# Altium footprint library FootPrintLib_2.PcbLib: 173 footprints (part 5 of 11)
Each footprint in its own frame and in the unit in brackets; x right, y up, seen from the top. Pads: shape width x height; smd on the part's side, far side on the other; paste and mask are expansions set on the pad; w line width, h text height; cw(c..) or ccw(c..) is an arc to the next point about the centre after c.
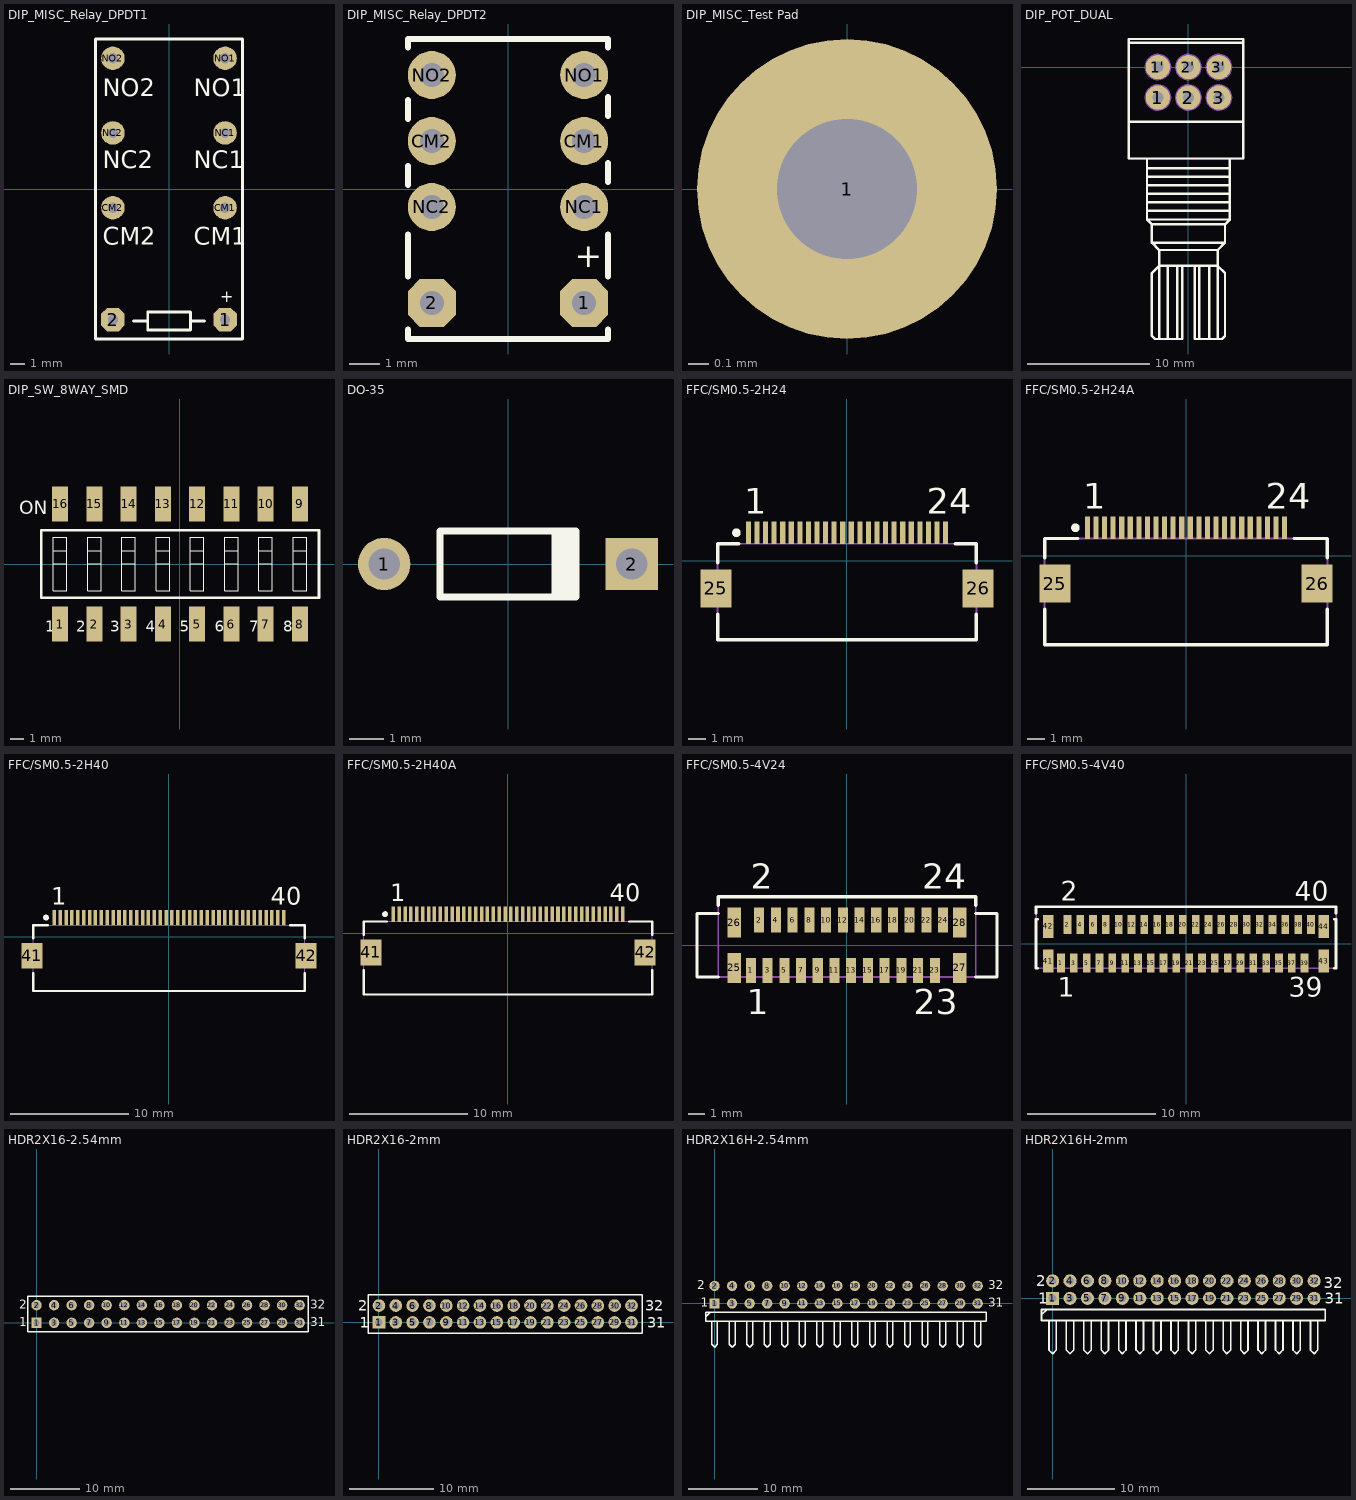
[diagram p4: the footprints below, top view; thin cyan lines are the x and y axes]

## DIP_MISC_Relay_DPDT1 [mm] "OMRON G5V-2 DPDT Relay (20.4*10*12 mm)"
height 11.95
pads (8):
  oct 1.6x1.6 hole 0.7: 1(3.81,-8.89) 2(-3.81,-8.89)
  round 1.6 hole 0.7: CM1(3.81,-1.27) CM2(-3.81,-1.27) NC1(3.81,3.81) NC2(-3.81,3.81) NO1(3.81,8.89) NO2(-3.81,8.89)
Top Overlay:
  lines w0.2: -2.4,-8.98 -1.447,-8.98 ; 1.472,-8.98 2.4,-8.98 ; -5,-10.2 5,-10.2 5,10.2 -5,10.2 -5,-10.2 ; -1.447,-9.59 1.472,-9.59 1.472,-8.371 -1.447,-8.371 -1.447,-9.59
  text "CM2" at -4.5,-3.8 h1.2
  text "NC2" at -4.5,1.4 h1.2
  text "NO2" at -4.5,6.3 h1.2
  text "NO1" at 1.7,6.3 h1.2
  text "NC1" at 1.7,1.4 h1.2
  text "CM1" at 1.7,-3.8 h1.2
  text "+" at 3.5,-7.7 h0.8
3D body "OMROM G5V-2 DPDT Mini Relay -TH.STEP": height 11, standoff -3.7, extent -4.925,-10.1 4.925,10.1

## DIP_MISC_Relay_DPDT2 [mm] "OMRON G6K-2P-Y DPDT Relay (10*6.5*5 mm)"
height 11.95
pads (8):
  oct 1.6x1.6 hole 0.8: 1(2.54,-3.8) 2(-2.54,-3.8)
  round 1.6 hole 0.8: CM1(2.54,1.6) CM2(-2.54,1.6) NC1(2.54,-0.6) NC2(-2.54,-0.6) NO1(2.54,3.8) NO2(-2.54,3.8)
Top Overlay:
  lines w0.2: -3.34,-4.689 -3.34,-5 3.34,-5 3.34,-4.689 ; -3.34,-2.911 -3.34,-1.514 ; -3.34,0.137 -3.34,0.772 ; -3.34,2.337 -3.34,2.972 ; -3.34,4.709 -3.34,5 3.34,5 3.34,4.709 ; 3.34,-2.911 3.34,-1.514 ; 3.34,0.228 3.34,0.863 ; 3.34,2.428 3.34,3.063
  text "+" at 2.23,-2.61 h0.8
3D body "g6k-2p-y.STEP": height 5.1, standoff -2.4, extent -3.25,-5 3.25,5

## DIP_MISC_Test Pad [mm]
pads (1):
  round 1.5 hole 0.7: 1(0,0)

## DIP_POT_DUAL [mm] "POT-R0911G-A1"
pads (6):
  round 2 hole 0.9: 1(-2.5,-2.5) 1'(-2.5,0) 2(0,-2.5) 2'(0,0) 3(2.5,-2.5) 3'(2.5,0)
Top Overlay:
  lines w0.2: -4.9,-4.5 4.5,-4.5 ; -4.9,2 4.5,2 ; -3.4,-11.8 3.4,-11.8 3.4,-12.5 ; -3.4,-11.1 3.4,-11.1 ; -3.4,-10.4 3.4,-10.4 ; -3.4,-9.7 3.4,-9.7 ; -3.4,-9 3.4,-9 ; -3.4,-8.3 3.4,-8.3 ; -3.4,-7.5 -3.4,-12.5 ; -2.4,-22.3 -2.4,-16.3 ; -1.7,-22.3 -1.7,-16.3 ; -0.9,-22.3 -0.9,-16.3 ; -0.5,-16.3 -0.5,-22.3 -2.75,-22.3 -3,-22.05 -3,-16.9 -2.4,-16.3 ; 0.5,-16.3 0.5,-22.3 2.75,-22.3 3,-22.05 3,-16.9 2.4,-16.3 ; 0.9,-22.3 0.9,-16.3 ; 1.7,-22.3 1.7,-16.3 ; 2.4,-22.3 2.4,-16.3 ; 3.4,-7.5 3.4,-12.5 ; -3.4,-12.5 0,-12.5 3.4,-12.5 ; -3.4,-12.5 -3,-12.9 ; -3,-14.4 0,-14.4 3,-14.4 ; -3,-14.4 -3,-12.9 ; -3,-14.4 -2.4,-15 ; -3,-12.9 0,-12.9 3,-12.9 ; -2.4,-16.3 0,-16.3 2.4,-16.3 ; -2.4,-16.3 -2.4,-15 ; -2.4,-15 0,-15 2.4,-15 ; 2.4,-16.3 2.4,-15 ; 2.4,-15 3,-14.4 ; 3,-14.4 3,-12.9 ; 3,-12.9 3.4,-12.5 ; -4.9,-7.5 -4.9,2.3 4.5,2.3 4.5,-7.5 -4.9,-7.5
Mechanical 7:
  circle w0.2: c2.5,-2.5 r1
  circle w0.2: c0,-2.5 r1
  circle w0.2: c-2.5,-2.5 r1
  circle w0.2: c2.5,0 r1
  circle w0.2: c0,0 r1
  circle w0.2: c-2.5,0 r1
  lines w0.1: -4.9,-4.5 4.5,-4.5 ; -4.9,2 4.5,2 ; -3.4,-11.8 3.4,-11.8 3.4,-12.5 ; -3.4,-11.1 3.4,-11.1 ; -3.4,-10.4 3.4,-10.4 ; -3.4,-9.7 3.4,-9.7 ; -3.4,-9 3.4,-9 ; -3.4,-8.3 3.4,-8.3 ; -3.4,-7.5 -3.4,-12.5 ; -2.4,-22.3 -2.4,-16.3 ; -1.7,-22.3 -1.7,-16.3 ; -0.9,-22.3 -0.9,-16.3 ; -0.5,-16.3 -0.5,-22.3 -2.75,-22.3 -3,-22.05 -3,-16.9 -2.4,-16.3 ; 0.5,-16.3 0.5,-22.3 2.75,-22.3 3,-22.05 3,-16.9 2.4,-16.3 ; 0.9,-22.3 0.9,-16.3 ; 1.7,-22.3 1.7,-16.3 ; 2.4,-22.3 2.4,-16.3 ; 3.4,-7.5 3.4,-12.5 ; -3.4,-12.5 -3,-12.9 ; -3.4,-12.5 0,-12.5 3.4,-12.5 ; -3,-14.4 -2.4,-15 ; -3,-14.4 -3,-12.9 ; -3,-14.4 0,-14.4 3,-14.4 ; -3,-12.9 0,-12.9 3,-12.9 ; -2.4,-16.3 -2.4,-15 ; -2.4,-16.3 0,-16.3 2.4,-16.3 ; -2.4,-15 0,-15 2.4,-15 ; 2.4,-16.3 2.4,-15 ; 2.4,-15 3,-14.4 ; 3,-14.4 3,-12.9 ; 3,-12.9 3.4,-12.5 ; -4.9,-7.5 4.5,-7.5 4.5,2.3 -4.9,2.3 -4.9,-7.5
3D body "Potentiometer 2x5K Linear.stp": height 12.64, standoff -2.5, extent -5.725,-27.97 5.764,1.504

## DIP_SW_8WAY_SMD [mm] "DIP Switch; 16 Leads"
height 5.06
pads (16):
  rect 1.2x2.6 smd: 1(-8.89,-4.45) 2(-6.35,-4.45) 3(-3.81,-4.45) 4(-1.27,-4.45) 5(1.27,-4.45) 6(3.81,-4.45) 7(6.35,-4.45) 8(8.89,-4.45) 9(8.89,4.45) 10(6.35,4.45) 11(3.81,4.45) 12(1.27,4.45) 13(-1.27,4.45) 14(-3.81,4.45) 15(-6.35,4.45) 16(-8.89,4.45)
Top Overlay:
  lines w0.025: -9.39,0 -8.39,0 ; -9.39,1 -8.39,1 ; -6.85,0 -5.85,0 ; -6.85,1 -5.85,1 ; -4.31,0 -3.31,0 ; -4.31,1 -3.31,1 ; -1.77,0 -0.77,0 ; -1.77,1 -0.77,1 ; 0.77,0 1.77,0 ; 0.77,1 1.77,1 ; 3.31,0 4.31,0 ; 3.31,1 4.31,1 ; 5.85,0 6.85,0 ; 5.85,1 6.85,1 ; 8.39,0 9.39,0 ; 8.39,1 9.39,1 ; -9.39,-2 -8.39,-2 -8.39,2 -9.39,2 -9.39,-2 ; -6.85,-2 -5.85,-2 -5.85,2 -6.85,2 -6.85,-2 ; -4.31,-2 -3.31,-2 -3.31,2 -4.31,2 -4.31,-2 ; -1.77,-2 -0.77,-2 -0.77,2 -1.77,2 -1.77,-2 ; 0.77,-2 1.77,-2 1.77,2 0.77,2 0.77,-2 ; 3.31,-2 4.31,-2 4.31,2 3.31,2 3.31,-2 ; 5.85,-2 6.85,-2 6.85,2 5.85,2 5.85,-2 ; 8.39,-2 9.39,-2 9.39,2 8.39,2 8.39,-2
  lines w0.2: -10.29,-2.5 10.31,-2.5 10.31,2.5 -10.29,2.5 -10.29,-2.5
  text "8" at 7.659,-5.032 h0.8
  text "7" at 5.119,-5.032 h0.8
  text "ON" at -11.938,3.678 h1
  text "1" at -10.006,-5.032 h0.8
  text "2" at -7.681,-5.032 h0.8
  text "3" at -5.181,-5.032 h0.8
  text "4" at -2.556,-5.032 h0.8
  text "5" at -0.031,-5.032 h0.8
  text "6" at 2.569,-5.032 h0.8

## DO-35 [mm] "Diode, Axial; Body 3.8 x 1.9 mm (LxDia. max), Lead Dia. 0.53 mm (max)"
height 1.9
pads (2):
  round 1.5 hole 0.9: 1(-3.55,0)
  rect 1.5x1.5 hole 0.9: 2(3.55,0)
Top Overlay:
  rectangle: 1.25,-0.95 2.05,0.95
  lines w0.2: 1.95,-0.95 -1.95,-0.95 -1.95,0.95 1.95,0.95
3D body "SW3dPS-do_35.STEP": height 1.89, standoff -2.29, extent -3.816,-0.875 3.816,0.875

## FFC/SM0.5-2H24 [mm] "Connector; FH12 Series; 24 Position; 0.5mm Spaced Bottom Contact"
height 2
pads (26):
  rect 0.3x1.3 smd: 1(-5.75,1.625) 2(-5.25,1.625) 3(-4.75,1.625) 4(-4.25,1.625) 5(-3.75,1.625) 6(-3.25,1.625) 7(-2.75,1.625) 8(-2.25,1.625) 9(-1.75,1.625) 10(-1.25,1.625) 11(-0.75,1.625) 12(-0.25,1.625) 13(0.25,1.625) 14(0.75,1.625) 15(1.25,1.625) 16(1.75,1.625) 17(2.25,1.625) 18(2.75,1.625) 19(3.25,1.625) 20(3.75,1.625) 21(4.25,1.625) 22(4.75,1.625) 23(5.25,1.625) 24(5.75,1.625)
  rect 1.8x2.2 smd: 25(-7.65,-1.625) 26(7.65,-1.625)
Top Overlay:
  circle w0.25: c-6.45,1.625 r0.125
  lines w0.2: -7.55,-3.125 -7.55,-4.625 7.55,-4.625 7.55,-3.125 ; -7.55,-0.125 -7.55,0.975 -6.3,0.975 ; 6.3,0.975 7.55,0.975 7.55,-0.125
  text "1" at -6,2.725 h1.5
  text "24" at 4.65,2.725 h1.5
Mechanical 13:
  lines w0.1: -7.55,-4.625 7.55,-4.625 7.55,0.975 -7.55,0.975 -7.55,-4.625
3D body "5604.stp": height 2, standoff -0.04, extent -9.3,-4.83 9.3,1.97

## FFC/SM0.5-2H24A [mm] "Connector; FH12 Series; 24 Position; 0.5mm Spaced Top Contact"
height 2
pads (26):
  rect 0.3x1.3 smd: 1(-5.75,1.625) 2(-5.25,1.625) 3(-4.75,1.625) 4(-4.25,1.625) 5(-3.75,1.625) 6(-3.25,1.625) 7(-2.75,1.625) 8(-2.25,1.625) 9(-1.75,1.625) 10(-1.25,1.625) 11(-0.75,1.625) 12(-0.25,1.625) 13(0.25,1.625) 14(0.75,1.625) 15(1.25,1.625) 16(1.75,1.625) 17(2.25,1.625) 18(2.75,1.625) 19(3.25,1.625) 20(3.75,1.625) 21(4.25,1.625) 22(4.75,1.625) 23(5.25,1.625) 24(5.75,1.625)
  rect 1.8x2.2 smd: 25(-7.65,-1.625) 26(7.65,-1.625)
Top Overlay:
  circle w0.25: c-6.45,1.625 r0.125
  lines w0.2: -8.25,-3.125 -8.25,-5.2 8.25,-5.2 8.25,-3.125 ; -8.25,-0.125 -8.25,1 -6.3,1 ; 6.3,1 8.25,1 8.25,-0.125
  text "24" at 4.65,2.725 h1.5
  text "1" at -6,2.725 h1.5
Mechanical 13:
  lines w0.1: -8.25,-5.2 -8.25,1 8.25,1 8.25,-5.2 -8.25,-5.2
3D body "5604.stp": height 2, standoff -0.04, extent -9.3,-4.83 9.3,1.97

## FFC/SM0.5-2H40 [mm] "Connector; FH12 Series; 40 Position; 0.5mm Spaced Bottom Contact"
height 2
pads (42):
  rect 0.3x1.3 smd: 1(-9.75,1.625) 2(-9.25,1.625) 3(-8.75,1.625) 4(-8.25,1.625) 5(-7.75,1.625) 6(-7.25,1.625) 7(-6.75,1.625) 8(-6.25,1.625) 9(-5.75,1.625) 10(-5.25,1.625) 11(-4.75,1.625) 12(-4.25,1.625) 13(-3.75,1.625) 14(-3.25,1.625) 15(-2.75,1.625) 16(-2.25,1.625) 17(-1.75,1.625) 18(-1.25,1.625) 19(-0.75,1.625) 20(-0.25,1.625) 21(0.25,1.625) 22(0.75,1.625) 23(1.25,1.625) 24(1.75,1.625) 25(2.25,1.625) 26(2.75,1.625) 27(3.25,1.625) 28(3.75,1.625) 29(4.25,1.625) 30(4.75,1.625) 31(5.25,1.625) 32(5.75,1.625) 33(6.25,1.625) 34(6.75,1.625) 35(7.25,1.625) 36(7.75,1.625) 37(8.25,1.625) 38(8.75,1.625) 39(9.25,1.625) 40(9.75,1.625)
  rect 1.8x2.2 smd: 41(-11.65,-1.625) 42(11.65,-1.625)
Top Overlay:
  circle w0.25: c-10.45,1.625 r0.125
  lines w0.2: -11.55,-3.125 -11.55,-4.625 11.55,-4.625 11.55,-3.125 ; -11.55,-0.125 -11.55,0.975 -10.3,0.975 ; 10.3,0.975 11.55,0.975 11.55,-0.125
  text "40" at 8.65,2.725 h1.5
  text "1" at -10,2.725 h1.5
Mechanical 13:
  lines w0.1: -11.55,-4.625 11.55,-4.625 11.55,0.975 -11.55,0.975 -11.55,-4.625
3D body "ffc_fpc_affc25-40-050-shb-t.STEP": height 2.2, standoff -0.05, extent -12.05,-4.854 12.05,1.645

## FFC/SM0.5-2H40A [mm] "Connector; FH12 Series; 40 Position; 0.5mm Spaced Top Contact"
height 2
pads (42):
  rect 0.3x1.3 smd: 1(-9.75,1.625) 2(-9.25,1.625) 3(-8.75,1.625) 4(-8.25,1.625) 5(-7.75,1.625) 6(-7.25,1.625) 7(-6.75,1.625) 8(-6.25,1.625) 9(-5.75,1.625) 10(-5.25,1.625) 11(-4.75,1.625) 12(-4.25,1.625) 13(-3.75,1.625) 14(-3.25,1.625) 15(-2.75,1.625) 16(-2.25,1.625) 17(-1.75,1.625) 18(-1.25,1.625) 19(-0.75,1.625) 20(-0.25,1.625) 21(0.25,1.625) 22(0.75,1.625) 23(1.25,1.625) 24(1.75,1.625) 25(2.25,1.625) 26(2.75,1.625) 27(3.25,1.625) 28(3.75,1.625) 29(4.25,1.625) 30(4.75,1.625) 31(5.25,1.625) 32(5.75,1.625) 33(6.25,1.625) 34(6.75,1.625) 35(7.25,1.625) 36(7.75,1.625) 37(8.25,1.625) 38(8.75,1.625) 39(9.25,1.625) 40(9.75,1.625)
  rect 1.8x2.2 smd: 41(-11.65,-1.625) 42(11.65,-1.625)
Top Overlay:
  circle w0.25: c-10.45,1.625 r0.125
  lines w0.2: -12.25,-3.125 -12.25,-5.2 12.25,-5.2 12.25,-3.125 ; -12.25,-0.125 -12.25,1 -10.3,1 ; 10.3,1 12.25,1 12.25,-0.125
  text "40" at 8.65,2.725 h1.5
  text "1" at -10,2.725 h1.5
Mechanical 13:
  lines w0.1: -12.25,-5.2 -12.25,1 12.25,1 12.25,-5.2 -12.25,-5.2
3D body "ffc_fpc_affc25-40-050-shb-t.STEP": height 2.2, standoff -0.05, extent -12.05,-4.854 12.05,1.645

## FFC/SM0.5-4V24 [mm] "Connector; FH12 Series; 24 Position; 0.5mm Spaced Vertical Mounting"
height 4.85
pads (28):
  rect 0.6x1.5 smd: 1(-5.75,-1.5) 2(-5.25,1.5) 3(-4.75,-1.5) 4(-4.25,1.5) 5(-3.75,-1.5) 6(-3.25,1.5) 7(-2.75,-1.5) 8(-2.25,1.5) 9(-1.75,-1.5) 10(-1.25,1.5) 11(-0.75,-1.5) 12(-0.25,1.5) 13(0.25,-1.5) 14(0.75,1.5) 15(1.25,-1.5) 16(1.75,1.5) 17(2.25,-1.5) 18(2.75,1.5) 19(3.25,-1.5) 20(3.75,1.5) 21(4.25,-1.5) 22(4.75,1.5) 23(5.25,-1.5) 24(5.75,1.5)
  rect 0.8x1.8 smd: 25(-6.75,-1.35) 26(-6.75,1.35) 27(6.75,-1.35) 28(6.75,1.35)
Top Overlay:
  lines w0.2: -7.7,-1.9 -8.97,-1.9 -8.97,1.9 -7.7,1.9 ; -7.7,2.4 -7.7,2.9 7.7,2.9 7.7,2.4 ; 7.7,-1.9 8.97,-1.9 8.97,1.9 7.7,1.9
  text "1" at -6,-4.125 h1.5
  text "2" at -5.75,3.375 h1.5
  text "24" at 4.5,3.375 h1.5
  text "23" at 4,-4.125 h1.5
Mechanical 13:
  lines w0.1: -7.7,-1.9 7.7,-1.9 7.7,2.9 -7.7,2.9 -7.7,-1.9
3D body "5632.stp": height 3.9, standoff 0, extent -8.85,-1.65 8.85,1.85

## FFC/SM0.5-4V40 [mm] "Connector; FH12 Series; 40 Position; 0.5mm Spaced Vertical Mounting"
height 4.85
pads (44):
  rect 0.6x1.5 smd: 1(-9.75,-1.5) 2(-9.25,1.5) 3(-8.75,-1.5) 4(-8.25,1.5) 5(-7.75,-1.5) 6(-7.25,1.5) 7(-6.75,-1.5) 8(-6.25,1.5) 9(-5.75,-1.5) 10(-5.25,1.5) 11(-4.75,-1.5) 12(-4.25,1.5) 13(-3.75,-1.5) 14(-3.25,1.5) 15(-2.75,-1.5) 16(-2.25,1.5) 17(-1.75,-1.5) 18(-1.25,1.5) 19(-0.75,-1.5) 20(-0.25,1.5) 21(0.25,-1.5) 22(0.75,1.5) 23(1.25,-1.5) 24(1.75,1.5) 25(2.25,-1.5) 26(2.75,1.5) 27(3.25,-1.5) 28(3.75,1.5) 29(4.25,-1.5) 30(4.75,1.5) 31(5.25,-1.5) 32(5.75,1.5) 33(6.25,-1.5) 34(6.75,1.5) 35(7.25,-1.5) 36(7.75,1.5) 37(8.25,-1.5) 38(8.75,1.5) 39(9.25,-1.5) 40(9.75,1.5)
  rect 0.8x1.8 smd: 41(-10.75,-1.35) 42(-10.75,1.35) 43(10.75,-1.35) 44(10.75,1.35)
Top Overlay:
  lines w0.2: -11.7,2.4 -11.7,2.9 11.7,2.9 11.7,2.4 ; -11.55,-1.9 -11.7,-1.9 -11.7,1.9 -11.55,1.9 ; 11.55,-1.9 11.7,-1.9 11.7,1.9 11.55,1.9
  text "39" at 8,-4.125 h1.5
  text "40" at 8.5,3.375 h1.5
  text "2" at -9.75,3.375 h1.5
  text "1" at -10,-4.125 h1.5
Mechanical 13:
  lines w0.1: -11.7,-1.9 -11.7,2.9 11.7,2.9 11.7,-1.9 -11.7,-1.9
3D body "ZIF connector.stp": height 4.47, standoff -0.02, extent -12.118,-1.454 12.182,1.483

## HDR2X16-2.54mm [mm] "Connector; Header; 16x2 Position; 2.54mm Pitch"
pads (32):
  rect 1.5x1.5 hole 0.9: 1(0,0)
  round 1.5 hole 0.9: 2(0,2.54) 3(2.54,0) 4(2.54,2.54) 5(5.08,0) 6(5.08,2.54) 7(7.62,0) 8(7.62,2.54) 9(10.16,0) 10(10.16,2.54) 11(12.7,0) 12(12.7,2.54) 13(15.24,0) 14(15.24,2.54) 15(17.78,0) 16(17.78,2.54) 17(20.32,0) 18(20.32,2.54) 19(22.86,0) 20(22.86,2.54) 21(25.4,0) 22(25.4,2.54) 23(27.94,0) 24(27.94,2.54) 25(30.48,0) 26(30.48,2.54) 27(33.02,0) 28(33.02,2.54) 29(35.56,0) 30(35.56,2.54) 31(38.1,0) 32(38.1,2.54)
Top Overlay:
  lines w0.2: -1.27,-1.27 39.37,-1.27 39.37,3.81 -1.27,3.81 -1.27,-1.27
  text "2" at -2.54,2.032 h1.27
  text "1" at -2.54,-0.508 h1.27
  text "31" at 39.624,-0.508 h1.27
  text "32" at 39.624,2.032 h1.27

## HDR2X16-2mm [mm] "Connector; Header; 16x2 Position; 2mm Pitch"
pads (32):
  rect 1.5x1.5 hole 0.9: 1(0,0)
  round 1.5 hole 0.9: 2(0,2) 3(2,0) 4(2,2) 5(4,0) 6(4,2) 7(6,0) 8(6,2) 9(8,0) 10(8,2) 11(10,0) 12(10,2) 13(12,0) 14(12,2) 15(14,0) 16(14,2) 17(16,0) 18(16,2) 19(18,0) 20(18,2) 21(20,0) 22(20,2) 23(22,0) 24(22,2) 25(24,0) 26(24,2) 27(26,0) 28(26,2) 29(28,0) 30(28,2) 31(30,0) 32(30,2)
Top Overlay:
  lines w0.2: -1.27,-1.27 31.27,-1.27 31.27,3.27 -1.27,3.27 -1.27,-1.27
  text "2" at -2.489,1.397 h1.27
  text "1" at -2.286,-0.635 h1.27
  text "31" at 31.877,-0.635 h1.27
  text "32" at 31.623,1.397 h1.27

## HDR2X16H-2.54mm [mm] "Connector; Header; 16x2 Position; Right Angle; 2.54mm Pitch"
pads (32):
  rect 1.5x1.5 hole 0.9: 1(0,0)
  round 1.5 hole 0.9: 2(0,2.54) 3(2.54,0) 4(2.54,2.54) 5(5.08,0) 6(5.08,2.54) 7(7.62,0) 8(7.62,2.54) 9(10.16,0) 10(10.16,2.54) 11(12.7,0) 12(12.7,2.54) 13(15.24,0) 14(15.24,2.54) 15(17.78,0) 16(17.78,2.54) 17(20.32,0) 18(20.32,2.54) 19(22.86,0) 20(22.86,2.54) 21(25.4,0) 22(25.4,2.54) 23(27.94,0) 24(27.94,2.54) 25(30.48,0) 26(30.48,2.54) 27(33.02,0) 28(33.02,2.54) 29(35.56,0) 30(35.56,2.54) 31(38.1,0) 32(38.1,2.54)
Top Overlay:
  lines w0.2: -1.27,-1.905 -0.635,-1.27 ; -0.423,-2.54 -0.423,-5.927 0,-6.35 0.423,-5.927 0.423,-2.54 ; 2.117,-2.54 2.117,-5.927 2.54,-6.35 2.963,-5.927 2.963,-2.54 ; 4.657,-2.54 4.657,-5.927 5.08,-6.35 5.503,-5.927 5.503,-2.54 ; 7.197,-2.54 7.197,-5.927 7.62,-6.35 8.043,-5.927 8.043,-2.54 ; 9.737,-2.54 9.737,-5.927 10.16,-6.35 10.583,-5.927 10.583,-2.54 ; 12.277,-2.54 12.277,-5.927 12.7,-6.35 13.123,-5.927 13.123,-2.54 ; 14.817,-2.54 14.817,-5.927 15.24,-6.35 15.663,-5.927 15.663,-2.54 ; 17.357,-2.54 17.357,-5.927 17.78,-6.35 18.203,-5.927 18.203,-2.54 ; 19.897,-2.54 19.897,-5.927 20.32,-6.35 20.743,-5.927 20.743,-2.54 ; 22.437,-2.54 22.437,-5.927 22.86,-6.35 23.283,-5.927 23.283,-2.54 ; 24.977,-2.54 24.977,-5.927 25.4,-6.35 25.823,-5.927 25.823,-2.54 ; 27.517,-2.54 27.517,-5.927 27.94,-6.35 28.363,-5.927 28.363,-2.54 ; 30.057,-2.54 30.057,-5.927 30.48,-6.35 30.903,-5.927 30.903,-2.54 ; 32.597,-2.54 32.597,-5.927 33.02,-6.35 33.443,-5.927 33.443,-2.54 ; 35.137,-2.54 35.137,-5.927 35.56,-6.35 35.983,-5.927 35.983,-2.54 ; 37.677,-2.54 37.677,-5.927 38.1,-6.35 38.523,-5.927 38.523,-2.54 ; -1.27,-2.54 -1.27,-1.27 39.37,-1.27 39.37,-2.54 -1.27,-2.54
  text "2" at -2.54,2.032 h1.27
  text "1" at -2.032,-0.508 h1.27
  text "31" at 39.624,-0.508 h1.27
  text "32" at 39.624,2.032 h1.27

## HDR2X16H-2mm [mm] "Connector; Header; 16x2 Position; Right Angle; 2mm Pitch"
pads (32):
  rect 1.5x1.5 hole 0.9: 1(0,0)
  round 1.5 hole 0.9: 2(0,2) 3(2,0) 4(2,2) 5(4,0) 6(4,2) 7(6,0) 8(6,2) 9(8,0) 10(8,2) 11(10,0) 12(10,2) 13(12,0) 14(12,2) 15(14,0) 16(14,2) 17(16,0) 18(16,2) 19(18,0) 20(18,2) 21(20,0) 22(20,2) 23(22,0) 24(22,2) 25(24,0) 26(24,2) 27(26,0) 28(26,2) 29(28,0) 30(28,2) 31(30,0) 32(30,2)
Top Overlay:
  lines w0.2: -1.27,-1.905 -0.635,-1.27 ; -0.423,-2.54 -0.423,-5.927 0,-6.35 0.423,-5.927 0.423,-2.54 ; 1.577,-2.54 1.577,-5.927 2,-6.35 2.423,-5.927 2.423,-2.54 ; 3.577,-2.54 3.577,-5.927 4,-6.35 4.423,-5.927 4.423,-2.54 ; 5.577,-2.54 5.577,-5.927 6,-6.35 6.423,-5.927 6.423,-2.54 ; 7.577,-2.54 7.577,-5.927 8,-6.35 8.423,-5.927 8.423,-2.54 ; 9.577,-2.54 9.577,-5.927 10,-6.35 10.423,-5.927 10.423,-2.54 ; 11.577,-2.54 11.577,-5.927 12,-6.35 12.423,-5.927 12.423,-2.54 ; 13.577,-2.54 13.577,-5.927 14,-6.35 14.423,-5.927 14.423,-2.54 ; 15.577,-2.54 15.577,-5.927 16,-6.35 16.423,-5.927 16.423,-2.54 ; 17.577,-2.54 17.577,-5.927 18,-6.35 18.423,-5.927 18.423,-2.54 ; 19.577,-2.54 19.577,-5.927 20,-6.35 20.423,-5.927 20.423,-2.54 ; 21.577,-2.54 21.577,-5.927 22,-6.35 22.423,-5.927 22.423,-2.54 ; 23.577,-2.54 23.577,-5.927 24,-6.35 24.423,-5.927 24.423,-2.54 ; 25.577,-2.54 25.577,-5.927 26,-6.35 26.423,-5.927 26.423,-2.54 ; 27.577,-2.54 27.577,-5.927 28,-6.35 28.423,-5.927 28.423,-2.54 ; 29.577,-2.54 29.577,-5.927 30,-6.35 30.423,-5.927 30.423,-2.54 ; -1.27,-2.54 -1.27,-1.27 31.27,-1.27 31.27,-2.54 -1.27,-2.54
  text "2" at -1.905,1.397 h1.27
  text "1" at -1.651,-0.635 h1.27
  text "31" at 31.242,-0.635 h1.27
  text "32" at 31.115,1.143 h1.27